# Altium schematic symbol library Components - 17.05.24 - 13.28.SchLib: 1 symbol
Pins are listed as number, name and electrical type; pins without a type are passive.

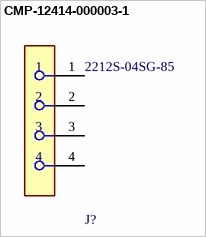
[diagram p0: symbol CMP-12414-000003-1]

## CMP-12414-000003-1
designator J?, comment 2212S-04SG-85
Header, Rectangular, 4 Positions, 2.54mm Pitch, Receptacle, Vertical, Through-Hole; Number of Contacts: 4; Insulation Resistance: 1GR; REACH SVHC: No SVHC; Mount: Through Hole; Termination: Through Hole; Number of Rows: 1; Flammability Rating: UL94 V-0; RoHS Compliant: Yes; Gender: Receptacle; Contact Plating: Gold; Length: 0.43inch; Width: 0.12inch; Weight: 0.11lb; Height: 0.35inch; Contact Material: Bronze
footprint FP-2212S-04SG-85-MFG
pins: 1, 2, 3, 4